# Altium schematic symbol library 150080BS75000.SchLib: 1 symbol
Pins are listed as number, name and electrical type; pins without a type are passive.

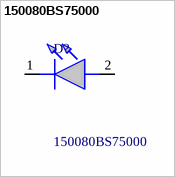
[diagram p0: symbol 150080BS75000]

## 150080BS75000
designator D?
LED,Wurth Elektronik,150080BS75000 Wurth Elektronik 150080BS75000, WL-SMCW Series Blue LED, 470 nm 2012 (0805) Clear, Rectangle Lens SMD package; Geometry.Height: 0.8mm; Mouser Part Number: 710-150080BS75000; Mouser Price/Stock: https://www.mouser.co.uk/ProductDetail/Wurth-Elektronik/150080BS75000?qs=2kOmHSv6VfT2tBo3UPVqAQ%3D%3D; Manufacturer_Name: Wurth Elektronik; Manufacturer_Part_Number: 150080BS75000; Datasheet Link: https://katalog.we-online.com/led/datasheet/150080BS75000.pdf
footprint LEDC2012X80N
pins: 1 K, 2 A